# Altium footprint library A4988.PcbLib: 1 footprints
Each footprint in its own frame and in the unit in brackets; x right, y up, seen from the top. Pads: shape width x height; smd on the part's side, far side on the other; paste and mask are expansions set on the pad; w line width, h text height; cw(c..) or ccw(c..) is an arc to the next point about the centre after c.
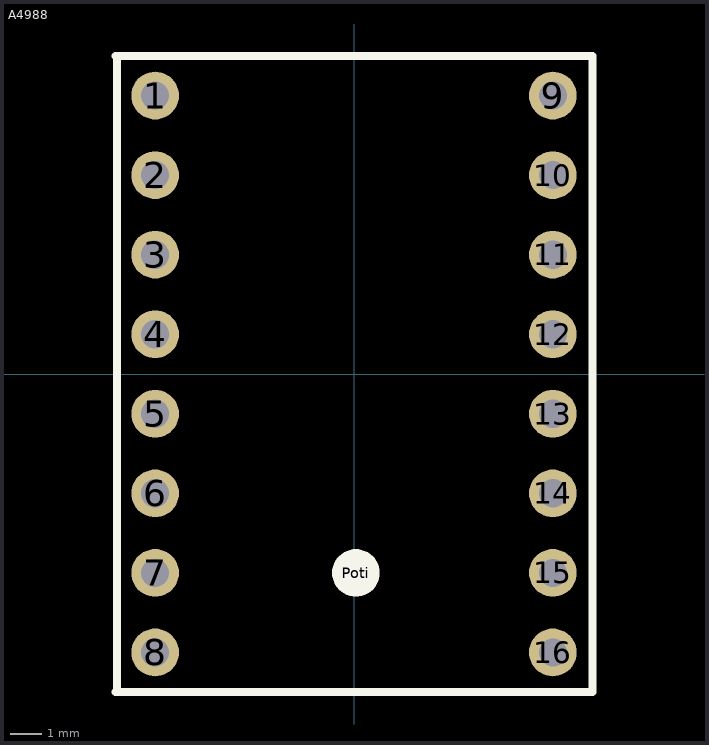
[diagram p0: the footprint, top view; thin cyan lines are the x and y axes]

## A4988 [mil]
pads (17):
  round 60 hole 35.43: 1(-250,350) 2(-250,250) 3(-250,150) 4(-250,50) 5(-250,-50) 6(-250,-150) 7(-250,-250) 8(-250,-350) 9(250,350) 10(250,250) 11(250,150) 12(250,50) 13(250,-50) 14(250,-150) 15(250,-250) 16(250,-350)
  round 60 on Top Overlay: Poti(2.36,-250)
Top Overlay:
  lines w10: -300,-400 300,-400 300,400 -300,400 ; -298.16,-400 -298.16,400
3D body "Steppertreiber.stp": height 617.58, standoff 2.23, extent -298.43,-402.56 300,402.56